# Altium footprint library Memory.PcbLib: 2 footprints
Each footprint in its own frame and in the unit in brackets; x right, y up, seen from the top. Pads: shape width x height; smd on the part's side, far side on the other; paste and mask are expansions set on the pad; w line width, h text height; cw(c..) or ccw(c..) is an arc to the next point about the centre after c.
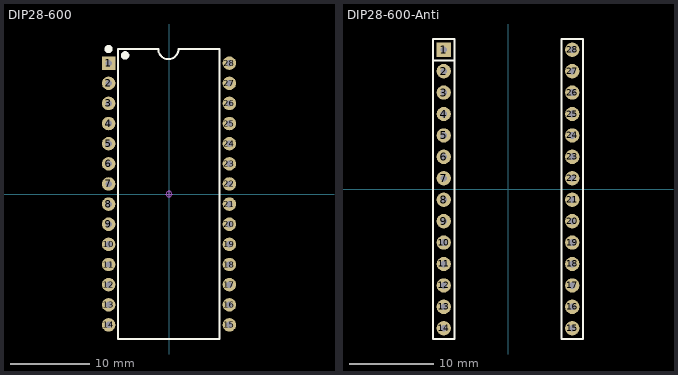
[diagram p0: the footprints below, top view; thin cyan lines are the x and y axes]

## DIP28-600 [mm] "37.3*15.3*4长宽高）"
pads (28):
  rect 1.7x1.7 hole 0.8: 1(-7.62,16.51)
  round 1.7 hole 0.8: 2(-7.62,13.97) 3(-7.62,11.43) 4(-7.62,8.89) 5(-7.62,6.35) 6(-7.62,3.81) 7(-7.62,1.27) 8(-7.62,-1.27) 9(-7.62,-3.81) 10(-7.62,-6.35) 11(-7.62,-8.89) 12(-7.62,-11.43) 13(-7.62,-13.97) 14(-7.62,-16.51) 15(7.62,-16.51) 16(7.62,-13.97) 17(7.62,-11.43) 18(7.62,-8.89) 19(7.62,-6.35) 20(7.62,-3.81) 21(7.62,-1.27) 22(7.62,1.27) 23(7.62,3.81) 24(7.62,6.35) 25(7.62,8.89) 26(7.62,11.43) 27(7.62,13.97) 28(7.62,16.51)
Top Overlay:
  circle w0.8: c-5.537,17.49 r0.127
  circle w0.508: c-7.62,18.288 r0.254
  lines w0.254: -6.46,18.277 -6.46,-18.288 6.35,-18.288 6.35,18.288 1.185,18.288 cw(c-0.085,18.288) -1.355,18.288 -6.435,18.288
Mechanical 15:
  circle w0.05: c0,0 r0.35
  lines w0.05: -0.5,0 0.5,0 ; 0,-0.5 0,0.5
3D body "DIP28-600.STEP": height 4.7, standoff -3.2, extent -7.78,-18.65 7.78,18.65

## DIP28-600-Anti [mm] "37.3*15.3*4长宽高）"
pads (28):
  rect 1.7x1.7 hole 0.8: 1(-7.62,16.51)
  round 1.7 hole 0.8: 2(-7.62,13.97) 3(-7.62,11.43) 4(-7.62,8.89) 5(-7.62,6.35) 6(-7.62,3.81) 7(-7.62,1.27) 8(-7.62,-1.27) 9(-7.62,-3.81) 10(-7.62,-6.35) 11(-7.62,-8.89) 12(-7.62,-11.43) 13(-7.62,-13.97) 14(-7.62,-16.51) 15(7.62,-16.51) 16(7.62,-13.97) 17(7.62,-11.43) 18(7.62,-8.89) 19(7.62,-6.35) 20(7.62,-3.81) 21(7.62,-1.27) 22(7.62,1.27) 23(7.62,3.81) 24(7.62,6.35) 25(7.62,8.89) 26(7.62,11.43) 27(7.62,13.97) 28(7.62,16.51)
Top Overlay:
  lines w0.203: -8.89,15.24 -6.35,15.24 ; -8.89,-17.78 -8.89,17.78 -6.35,17.78 -6.35,-17.78 -8.89,-17.78 ; 6.35,-17.78 8.89,-17.78 8.89,17.78 6.35,17.78 6.35,-17.78